# EAGLE library part FGPMMOPA6H (library automaton)
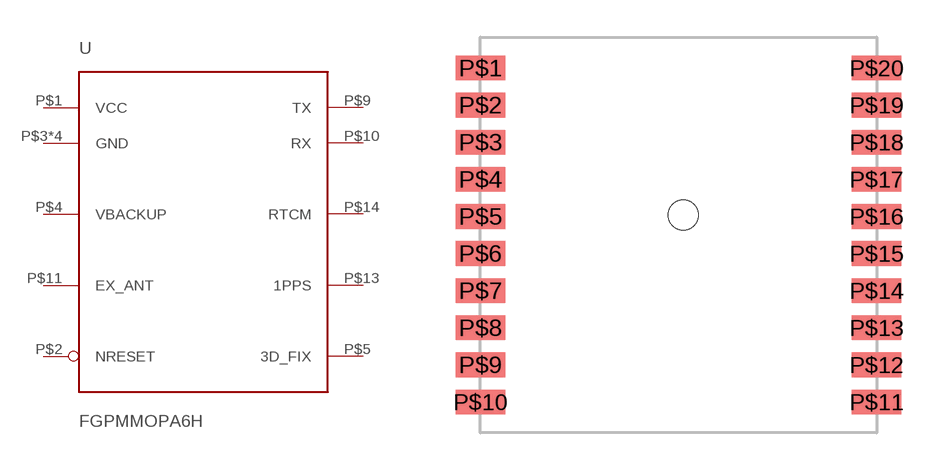
[diagram p3: symbol with the pads of FGPMMOPA6H; footprint FGPMMOPA6H]

Designator prefix -

## FGPMMOPA6HSMD  [FGPMMOPA6H]
P$1  VCC  pwr
P$2  NRESET
P$3  GND  pwr
P$4  VBACKUP  pwr
P$5  3D_FIX
P$8  GND  pwr
P$9  TX  out
P$10  RX  in
P$11  EX_ANT
P$12  GND  pwr
P$13  1PPS
P$14  RTCM
P$19  GND  pwr

## Footprint FGPMMOPA6H (pad centres in mm)
smd 2 x 1: P$1 -8,6.75; P$2 -8,5.25; P$3 -8,3.75; P$4 -8,2.25; P$5 -8,0.75; P$6 -8,-0.75; P$7 -8,-2.25; P$8 -8,-3.75; P$9 -8,-5.25; P$10 -8,-6.75; P$11 8,-6.75; P$12 8,-5.25; P$13 8,-3.75; P$14 8,-2.25; P$15 8,-0.75; P$16 8,0.75; P$17 8,2.25; P$18 8,3.75; P$19 8,5.25; P$20 8,6.75
hole 1.2 at 0.2,0.8